# Altium footprint library SS-MiniMA2Z.PcbLib: 1 footprints
Each footprint in its own frame and in the unit in brackets; x right, y up, seen from the top. Pads: shape width x height; smd on the part's side, far side on the other; paste and mask are expansions set on the pad; w line width, h text height; cw(c..) or ccw(c..) is an arc to the next point about the centre after c.
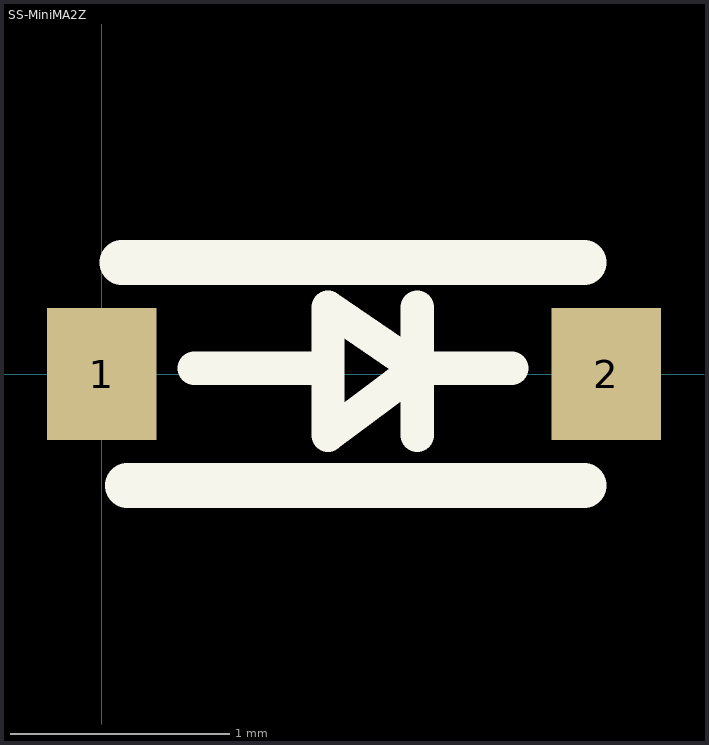
[diagram p0: the footprint, top view; thin cyan lines are the x and y axes]

## SS-MiniMA2Z [mm]
height 1.524
pads (2):
  rect 0.5x0.6 smd: 1(0,0) 2(2.3,0)
TopOverlay:
  lines w0.152: 0.422,0.025 1.032,0.025 ; 1.438,-0.279 1.438,0.025 ; 1.438,0.305 1.438,0.025 ; 1.87,0.025 1.438,0.025 ; 1.032,0.025 1.032,-0.279 1.438,0.025 ; 1.032,0.025 1.032,0.305 1.438,0.025
  lines w0.203: 0.092,0.508 2.2,0.508 ; 0.117,-0.508 2.2,-0.508
Mechanical4:
  text ".025" at 0.549,0 h0.03
  text ".040" at 2.2,0 h0.03